# Altium schematic symbol library c3_SchLib.SchLib: 363 symbols (part 1 of 3)
Pins are listed as number, name and electrical type; pins without a type are passive.

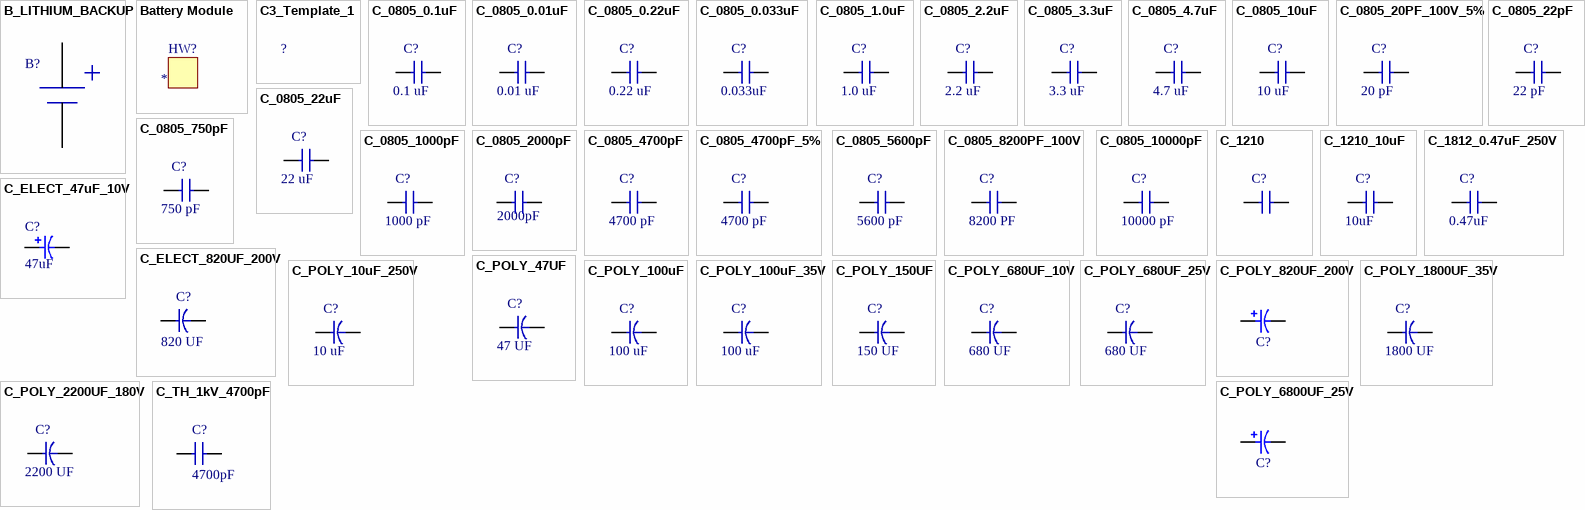
[diagram p0: symbols B_LITHIUM_BACKUP to C_TH_1kV_4700pF]

## B_LITHIUM_BACKUP
designator B?, comment Lithium Backup Battery  (value not drawn)
BATT LITH COIN 3V HITEMP SMD; Manufacturer PN: P290-ND; SVP Creator: Thomas; Known Distributors: Digikey; ComponentLink1Description: Datasheet; ComponentLink1URL: http://panasonic.com/industrial/includes/pdf/br1225afa.pdf; Price: 1.70
footprint SMT_LITHIUM
pins: 1 0, 2 1

## Battery Module
designator HW?
footprint Battery Module

## C3_Template_1
designator ?, comment Short Part Description  (value not drawn)
Technical Desc (like Digikey description); ComponentLink1Description: Datasheet; ComponentLink1URL: SVN Datasheet URL

## C_0805_0.1uF
designator C?, comment value 0.1 uF  (hidden comment: CAP 0.1uF)
CAP CERM 0.1uF; Manufacturer: Yageo; Manufacturer PN: CC0805ZRY5V9BB104; SVP Creator: Brett Paulsen; Package: 0805; Known Distributors: Digikey; ComponentLink1Description: Datasheet; ComponentLink1URL: SVN Datasheet URL; Price: .028
footprint 0805_Capacitor (0805 Capacitor)
pins: 1, 2

## C_0805_0.01uF
designator C?, comment value 0.01 uF  (hidden comment: CAP 0.01uF)
CAP CERM 0.01uF; SVP Creator: Matt Rogge; Package: 0805; Known Distributors: Digikey; ComponentLink1Description: Datasheet; ComponentLink1URL: http://search.digikey.com/us/en/products/GRM2195C1H103JA01D/490-1642-1-ND/587501
footprint 0805_Capacitor (0805 Capacitor)
pins: 1, 2

## C_0805_0.22uF
designator C?, comment value 0.22 uF  (hidden comment: CAP 0.22uF)
CAP CERM 0.22uF; SVP Creator: Matt Rogge; Package: 0805; Known Distributors: Digikey; ComponentLink1Description: Datasheet; ComponentLink1URL: http://search.digikey.com/us/en/products/C0805C224J5NACTU/399-5766-1-ND/2236773
footprint 0805_Capacitor (0805 Capacitor)
pins: 1, 2

## C_0805_0.033uF
designator C?, comment value 0.033uF  (hidden comment: CAP 0.033uF)
CAP CERM 0.033uF; SVP Creator: Matt Rogge; Package: 0805; Known Distributors: Digikey; ComponentLink1Description: Datasheet; ComponentLink1URL: http://search.digikey.com/us/en/products/08055C333JAT2A/478-3769-1-ND/1116467
footprint 0805_Capacitor (0805 Capacitor)
pins: 1, 2

## C_0805_1.0uF
designator C?, comment value 1.0 uF  (hidden comment: CAP 1uF)
CAP CERM 1uF; SVP Creator: Mark Newcomb; Package: 0805; Known Distributors: Digikey; ComponentLink1Description: Datasheet; ComponentLink1URL: http://search.digikey.com/us/en/products/C2012Y5V1H105Z%2F0.85/445-3463-1-ND/1801562
footprint 0805_Capacitor (0805 Capacitor)
pins: 1, 2

## C_0805_2.2uF
designator C?, comment value 2.2 uF  (hidden comment: CAP 2.2 uF)
CAP CERM 2.2 uF; Package: 0805; Known Distributors: Digikey; ComponentLink1Description: Datasheet; ComponentLink1URL: SVN Datasheet URL
footprint 0805_Capacitor (0805 Capacitor)
pins: 1, 2

## C_0805_3.3uF
designator C?, comment value 3.3 uF  (hidden comment: CAP 3.3 uF)
CAP CERM 3.3 uF; SVP Creator: Katie Moenkhaus; Package: 0805; Known Distributors: Digikey; ComponentLink1Description: Datasheet; ComponentLink1URL: SVN Datasheet URL
footprint 0805_Capacitor (0805 Capacitor)
pins: 1, 2

## C_0805_4.7uF
designator C?, comment value 4.7 uF  (hidden comment: CAP 4.7uF)
CAP CER 4.7UF 50V X5R 10% 0805; Manufacturer: TDK Corp; Manufacturer PN: C2012X5R1H475K; SVP Creator: Matt Rogge; Package: 0805; Known Distributors: Digikey; ComponentLink1Description: Datasheet; ComponentLink1URL: http://www.tdk.com/pdf/general_B11.pdf; Price: .80
footprint 0805_Capacitor (0805 Capacitor)
pins: 1, 2

## C_0805_10uF
designator C?, comment value 10 uF  (hidden comment: CAP 10 uF)
CAP CERM 10 uF; SVP Creator: Matt Rogge; Package: 0805; Known Distributors: Digikey; ComponentLink1Description: Datasheet; ComponentLink1URL: SVN Datasheet URL
footprint 0805_Capacitor (0805 Capacitor)
pins: 1, 2

## C_0805_20PF_100V_5%
designator C?, comment value 20 pF  (hidden comment: CAP 20PF)
CAP CERM 20PF 5% 100V NP0 0805; Manufacturer: AVX; Manufacturer PN: 08051A200JAT2A; SVP Creator: Jonathan Nutzmann; Package: 0805; Known Distributors: Digikey; ComponentLink1Description: Datasheet; ComponentLink1URL: SVN Datasheet URL; Price: 0.231
footprint 0805_Capacitor (0805 Capacitor)
pins: 1, 2

## C_0805_22pF
designator C?, comment value 22 pF  (hidden comment: CAP 22pF)
CAP CER 22PF 50V 5% NP0 0805; SVP Creator: Matt Rogge; Package: 0805; Known Distributors: Digikey; ComponentLink1Description: Datasheet; ComponentLink1URL: http://search.digikey.com/us/en/products/GQM2195C1H220JB01D/490-3608-1-ND/789608
footprint 0805_Capacitor (0805 Capacitor)
pins: 1, 2

## C_0805_22uF
designator C?, comment value 22 uF  (hidden comment: CAP 22 uF)
CAP CER 22UF 16V X5R 10% 0805; Manufacturer: TDK; Manufacturer PN: C2012X5R1C226K; SVP Creator: Matt Rogge; Package: 0805; Known Distributors: digikey; ComponentLink1Description: Datasheet; ComponentLink1URL: http://www.tdk.com/pdf/general_B11.pdf; Price: .88
footprint 0805_Capacitor (0805 Capacitor)
pins: 1, 2

## C_0805_750pF
designator C?, comment value 750 pF  (hidden comment: CAP 750pF)
CAP CER 750PF 50V 5% C0G 0805; Manufacturer: Murata Electronics; Manufacturer PN: GRM2165C1H751JA01D; SVP Creator: Matt Rogge; Package: 0805; Known Distributors: digikey; ComponentLink1Description: Datasheet; ComponentLink1URL: http://www.murata.com/products/catalog/pdf/c02e.pdf; Price: .44
footprint 0805_Capacitor (0805 Capacitor)
pins: 1, 2

## C_0805_1000pF
designator C?, comment value 1000 pF  (hidden comment: CAP 1000pF)
CAP CERM 1000PF; SVP Creator: Jonathan Nutzmann; Package: 0805; Known Distributors: Digikey; ComponentLink1Description: Datasheet; ComponentLink1URL: SVN Datasheet URL
footprint 0805_Capacitor (0805 Capacitor)
pins: 1, 2

## C_0805_2000pF
designator C?, comment value 2000pF  (hidden comment: CAP 2000pF)
CAP CER 2000PF 50V 5% NP0 0805; SVP Creator: Matt Rogge; Package: 0805; ComponentLink1Description: Datasheet; ComponentLink1URL: http://search.digikey.com/us/en/products/GRM2165C1H202JA01D/490-1627-1-ND/587505
footprint 0805_Capacitor (0805 Capacitor)
pins: 1, 2

## C_0805_4700pF
designator C?, comment value 4700 pF  (hidden comment: CAP 4700pF)
CAP CERM 4700pF; SVP Creator: Jonathan Nutzmann; Package: 0805; Known Distributors: Digikey; ComponentLink1Description: Datasheet; ComponentLink1URL: SVN Datasheet URL
footprint 0805_Capacitor (0805 Capacitor)
pins: 1, 2

## C_0805_4700pF_5%
designator C?, comment value 4700 pF  (hidden comment: CAP 4700pF 250V)
CAP CERM 4700pF 250V 5%; Manufacturer: TDK; Manufacturer PN: 445-4147-2-ND; SVP Creator: Chad Furey; Package: 0805; Known Distributors: Digikey; ComponentLink1Description: Datasheet; ComponentLink1URL: SVN Datasheet URL; Price: .55; Rating: 250V
footprint 1206_CAPACITOR (1206 Resistor/Capacitor)
pins: 1, 2

## C_0805_5600pF
designator C?, comment value 5600 pF  (hidden comment: CAP 5600pF)
CAP CERM 5600pF; Manufacturer: Yageo; Manufacturer PN: CC0805KRX7R9BB562; SVP Creator: Andrew Brown; Package: 0805; Known Distributors: Digikey; ComponentLink1Description: Datasheet; ComponentLink1URL: http://search.digikey.com/scripts/DkSearch/dksus.dll?Detail&name=311-1134-1-ND
footprint 0805_Capacitor (0805 Capacitor)
pins: 1, 2

## C_0805_8200PF_100V
designator C?, comment value 8200 PF  (hidden comment: CAP 8200 PF)
CAP CERM 8200 PF; SVP Creator: Jonathan Nutzmann; Package: 0805; Known Distributors: Digikey; ComponentLink1Description: Datasheet; ComponentLink1URL: SVN Datasheet URL
footprint 0805_Capacitor (0805 Capacitor)
pins: 1, 2

## C_0805_10000pF
designator C?, comment value 10000 pF  (hidden comment: CAP 10000pF)
CAP CERM 10000PF; Manufacturer: AVX; Manufacturer PN: 08051A200JAT2A; SVP Creator: Jonathan Nutzmann; Package: 0805; Known Distributors: Digikey; ComponentLink1Description: Datasheet; ComponentLink1URL: SVN Datasheet URL; Price: 0.231
footprint 0805_Capacitor (0805 Capacitor)
pins: 1, 2

## C_1210
designator C?, comment CAP 1210  (value not drawn)
CAP CERM 1210; Package: 1210; Known Distributors: Digikey; ComponentLink1Description: Datasheet; ComponentLink1URL: SVN Datasheet URL
footprint 1210_Capacitor (1210 Capacitor)
pins: 1, 2

## C_1210_10uF
designator C?  value 10uF
CAP CER 10UF 50V 10% X5R 1210; SVP Creator: Matt Rogge; Package: 1210; Known Distributors: Digikey; ComponentLink1Description: Datasheet; ComponentLink1URL: http://search.digikey.com/us/en/products/UMK325BJ106KM-T/587-2247-1-ND/2002945
footprint 1210_Capacitor (1210 Capacitor)
pins: 1, 2

## C_1812_0.47uF_250V
designator C?  value 0.47uF
CAP CER .47UF 250V X7R 10% 1812; Manufacturer: TDK Corporation; Manufacturer PN: C4532X7R2E474K; SVP Creator: Thomas Daede; Package: 1812; Known Distributors: Digikey; ComponentLink1Description: Datasheet; ComponentLink1URL: SVN Datasheet URL; Price: 0.88
footprint 1812_CAPACITOR (Chip Capacitor, 2-Leads, Body 4.5x3.2mm, IPC Medium Density)
pins: 1, 2

## C_ELECT_47uF_10V
designator C?, comment 47uF
pins: 1, 2

## C_ELECT_820UF_200V
designator C?  value 820 UF
CAP ALUM 820UF 200V; Manufacturer: Panasonic; Manufacturer PN: EET-ED2D821CA; ESR: 182.0 mOhm; SVP Creator: Jonathan Anders; Tolerance: ±20%; ComponentLink1URL: http://www.panasonic.com/industrial/components/pdf/ee163_ed_ts_dne.pdf; Known Distributors: Digikey; Price: $3.32
footprint CAP_10MM_35MM
pins: 1, 2

## C_POLY_10uF_250V
designator C?, comment value 10 uF  (hidden comment: EEV-EB2E100Q)
CAP ALUM 10UF 250V 20% SMD; Manufacturer: Panasonic; SVP Creator: Jonathan Nutzmann; ESR: 80mOhms; Package: Radial, Can - SMD; Known Distributors: Digikey; Manufacturer PN: EEV-EB2E100Q; ComponentLink1Description: Datasheet; ComponentLink1URL: http://search.digikey.com/scripts/DkSearch/dksus.dll?Detail&name=PCE4442CT-ND; Price: 1.06; Tolerance: 20%
footprint EEV-EB2E100Q
pins: 1, 2

## C_POLY_47UF
designator C?, comment value 47 UF  (hidden comment: CAP POLY 47UF 200V)
CAP 47UF 200V ELECT EE RADIAL; Manufacturer: Panasonic; Manufacturer PN: EEU-EE2D470; SVP Creator: Thomas Daede; Tolerance: 20%; ESR: unknown; Package: Radial, Can; Known Distributors: Digikey; ComponentLink1Description: Datasheet; ComponentLink1URL: SVN Datasheet URL; Price: 1.03
footprint CAP_12.5mm
pins: 1, 2

## C_POLY_100uF
designator C?, comment value 100 uF  (hidden comment: AFK107M2AP44T-F)
CAP ALUM 100UF 100V 20% SMD; Manufacturer: Cornell Dubilier Electronics (CDE); SVP Creator: Jonathan Nutzmann; ESR: 170 mOhms; Package: Radial, Can; Known Distributors: Digikey; Manufacturer PN: AFK107M2AP44T-F; ComponentLink1Description: Datasheet; ComponentLink1URL: http://www.cde.com/catalogs/AFK.pdf; Price: 2.61; Tolerance: 20%
pins: 1, 2

## C_POLY_100uF_35V
designator C?, comment value 100 uF  (hidden comment: EEE-FP1V101AP)
CAP ALUM 100UF 35V 20% SMD; Manufacturer: Panasonic; SVP Creator: Jonathan Nutzmann; ESR: 80mOhms; Package: Radial, Can - SMD; Known Distributors: Digikey; Manufacturer PN: EEE-FP1V101AP; ComponentLink1Description: Datasheet; ComponentLink1URL: http://search.digikey.com/scripts/DkSearch/dksus.dll?Detail&name=PCE4442CT-ND; Price: 1.03; Tolerance: 20%
footprint EEE-FP1V101AP
pins: 1, 2

## C_POLY_150UF
designator C?, comment value 150 UF  (hidden comment: CAP POLY 150UF)
CAP POLY 150UF 20V HT 125C RAD; Manufacturer: Nichicon; Manufacturer PN: RHT1D151MDN1; SVP Creator: Jonathan Nutzmann; Tolerance: 20%; ESR: 20.0 mOhm; Package: Radial, Can; Known Distributors: Digikey; ComponentLink1Description: Datasheet; ComponentLink1URL: SVN Datasheet URL; Price: 0.99
footprint CAP_NICHICON_R7
pins: 1, 2

## C_POLY_680UF_10V
designator C?, comment value 680 UF  (hidden comment: CAP POLY 680UF)
CAP POLY 680UF 10V LOW ESR RAD; Manufacturer: Nichicon; Manufacturer PN: RR71A681MDN1; SVP Creator: Jonathan Nutzmann; ESR: 7.0 mOhm; Package: Radial, Can; Known Distributors: Digikey; ComponentLink1Description: Datasheet; ComponentLink1URL: SVN Datasheet URL; Price: 0.73
footprint CAP_NICHICON_R7
pins: 1, 2

## C_POLY_680UF_25V
designator C?, comment value 680 UF  (hidden comment: CAP POLY 680UF)
CAP 680UF 25V ELECT FC RADIAL; Manufacturer: Panasonic; Manufacturer PN: EEU-FC1E681; SVP Creator: Jonathan Nutzmann; Package: Radial, Can; Known Distributors: The Shop; ComponentLink1Description: Datasheet; ComponentLink1URL: SVN Datasheet URL; Price: 0.71
footprint CAP_NICHICON_R7
pins: 1, 2

## C_POLY_820UF_200V
designator C?  (value not drawn)
CAP 820UF 200V ELECT TS-ED; Manufacturer: Panasonic; Manufacturer PN: EET-ED2D821EA; HelpURL: http://umnsvp.dyndns.org/svn/centaurus2/datasheets/; ComponentLink1URL: http://umnsvp.dyndns.org/svn/centaurus2/datasheets/; ComponentLink1Description: Datasheet
footprint CAP_10MM_35MM (Footprint not found)
pins: 1, 2

## C_POLY_1800UF_35V
designator C?, comment value 1800 UF  (hidden comment: CAP POLY 1800UF)
CAP 1800UF 35V ELECT FC RADIAL; SVP Creator: Patrick A. Plonski; Known Distributors: The Shop; ComponentLink1Description: Datasheet; ComponentLink1URL: SVN Datasheet URL
footprint CAP_7.5MM
pins: 1, 2

## C_POLY_2200UF_180V
designator C?, comment value 2200 UF  (hidden comment: CAP POLY 2200UF)
CAP 2200UF 180V ALUM SNAP-IN; Manufacturer: Cornell Dubilier Electronics; Manufacturer PN: SLPX222M180H7P3; SVP Creator: Jonathan Nutzmann; Package: Radial, Can; ComponentLink1Description: Datasheet; ComponentLink1URL: SVN Datasheet URL; Price: 5.65
footprint SLPX
pins: 1, 2

## C_POLY_6800UF_25V
designator C?  (value not drawn)
CAP ALUM 6800UF 25V 20% SNAP; Manufacturer: Panasonic; Manufacturer PN: ECO-S1EP682CA; ComponentLink1URL: http://www.panasonic.com/industrial/components/pdf/PIC_TS-UP_SERIES_DNE.pdf; ComponentLink1Description: Datasheet
footprint CAP_10MM_25MM
pins: 1, 2

## C_TH_1kV_4700pF
designator C?  value 4700pF  (hidden comment: C_TH_1kV_4700pF)
CAP CER 4700PF 1KVDC B RAD; Manufacturer: Murata; Manufacturer PN: DEBB33A472KA3B; Temperature Coefficient: Y5P; Tolerance: +/-10%; Voltage Rating: 1000V; SVP Creator: Nate Bolyard; Package: 7.5mm TH; Known Distributor: Digikey; ComponentLink1Description: Datasheet; ComponentLink1URL: http://umnsvp.dyndns.org/svn/centaurus2/datasheets/Capacitors/; HelpURL: http://umnsvp.dyndns.org/svn/centaurus2/datasheets/Capacitors/
footprint CAP_7.5MM (Murata)
pins: 1, 2

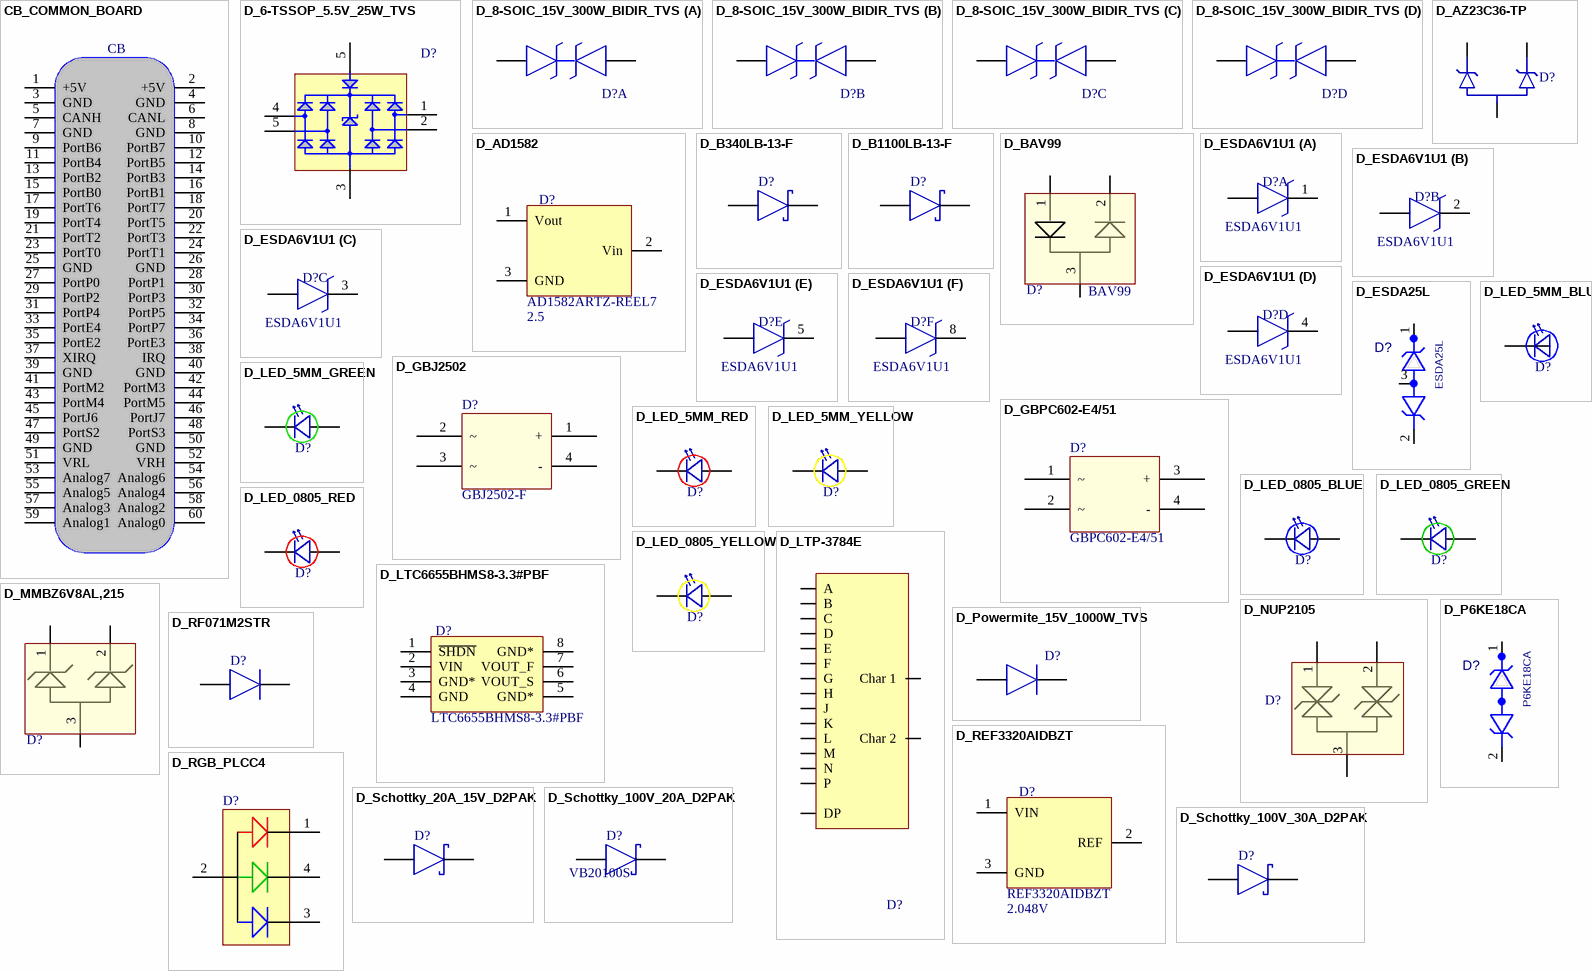
[diagram p1: symbols CB_COMMON_BOARD to D_Schottky_100V_30A_D2PAK]

## CB_COMMON_BOARD
designator CB, comment COMMON BOARD  (value not drawn)
Manufacturer: Samtec; Manufacturer PN: LS2-130-01-S-01-K; SVP Creator: Nate Bolyard; SVP Reviewer 1: Adam Shea; Package: LS2-130-01; HelpURL: http://umnsvp-backup.dyndns.org/svn/centaurus2/datasheets/common%20parts/ls2.pdf; ComponentLink1URL: http://umnsvp-backup.dyndns.org/svn/centaurus2/datasheets/common%20parts/ls2.pdf; ComponentLink1Description: Datasheet
footprint COMMON_BOARD
pins: 1 +5V, 2 +5V, 3 GND, 4 GND, 5 CANH, 6 CANL, 7 GND, 8 GND, 9 PortB6, 10 PortB7, 11 PortB4, 12 PortB5, 13 PortB2, 14 PortB3, 15 PortB0, 16 PortB1, 17 PortT6, 18 PortT7, 19 PortT4, 20 PortT5, 21 PortT2, 22 PortT3, 23 PortT0, 24 PortT1, 25 GND, 26 GND, 27 PortP0, 28 PortP1, 29 PortP2, 30 PortP3, 31 PortP4, 32 PortP5, 33 PortE4, 34 PortP7, 35 PortE2, 36 PortE3, 37 XIRQ, 38 IRQ, 39 GND, 40 GND, 41 PortM2, 42 PortM3, 43 PortM4, 44 PortM5, 45 PortJ6, 46 PortJ7, 47 PortS2, 48 PortS3, 49 GND, 50 GND, 51 VRL, 52 VRH, 53 Analog7, 54 Analog6, 55 Analog5, 56 Analog4, 57 Analog3, 58 Analog2, 59 Analog1, 60 Analog0

## D_6-TSSOP_5.5V_25W_TVS
designator D?, comment TVS Diode 5.5V  (value not drawn)
IC 4CH ESD SOLUTION DIFF SC70-6; Manufacturer: Texas Instruments; Manufacturer PN: TPD4S009DCKR; SVP Creator: Mark Newcomb; Package: 6-TSSOP; ComponentLink1Description: Datasheet; ComponentLink1URL: SVN Datasheet URL
pins: 1 D1+, 2 D1-, 3 GND, 4 D2+, 5 VCC, 5 D2-

## D_8-SOIC_15V_300W_BIDIR_TVS
designator D?, comment 15V BIDIR TVS DIODE  (value not drawn)
TVS ARRAY BIDIR 15.0 VWM SO-8; Manufacturer: Microsemi; Manufacturer PN: SMDA15CE3/TR7; SVP Creator: Mark Newcomb; Package: 8-SOIC; ComponentLink1Description: Datasheet; ComponentLink1URL: SVN Datasheet URL
footprint SOIC127P600X175-8N (SN65HVD230D) (SOIC, 8-Leads, Body 5.0x4.0mm (max), Pitch 1.27mm, IPC Medium Density)
part A pins: 1, 8
part B pins: 2, 7
part C pins: 3, 6
part D pins: 4, 5

## D_AD1582
designator D?  value 2.5  Manufacturer PN: AD1582ARTZ-REEL7
IC VREF SERIES PREC 2.5V SOT23-3; Manufacturer: TI; SVP Creator: Katie Moenkhaus; Package: SOT-23-3; Known Distributors: Digi-Key; Price: 1.80; ComponentLink1Description: Datasheet
footprint SOT-23 (SOT23, 3-Leads, Body 3.0x2.7mm (max), Pitch 0.95mm, IPC Medium Density)
pins: 1 Vout, 2 Vin, 3 GND

## D_AZ23C36-TP
designator D?
DIODE ZENER DUAL 36V SOT-23; Manufacturer: Micro; Manufacturer PN: AZ23C36-TP; SVP Creator: Jonathan Nutzmann; Package: SOT-23-3; Known Distributors: Digikey; HelpURL: http://umnsvp.dyndns.org/svn/centaurus2/datasheets/; ComponentLink1URL: http://umnsvp.dyndns.org/svn/centaurus2/datasheets/; ComponentLink1Description: Datasheet
footprint SOT-23 (SOT23, 3-Leads, Body 3.0x2.7mm (max), Pitch 0.95mm, IPC Medium Density)
pins: 1 CATHODE 1, 2 CATHODE 2, 3 ANODE

## D_B340LB-13-F
designator D?, comment Light Board Buck Diode  (value not drawn)
SCHOTTKY DIODE SCHOTTKY 3A 40V SMB; Manufacturer: Diodes Inc; Manufacturer PN: B340LB-13-F; SVP Creator: Thomas Daede; Package: SMB; Known Distributors: Digi-Key; Price: 0.50; ComponentLink1Description: Datasheet
footprint Model Name (Footprint not found)
footprint SOD123
pins: 1, 2

## D_B1100LB-13-F
designator D?, comment B1100LB-13-F  (value not drawn)
DIODE SCHOTTKY 100V 1A SMB; Manufacturer: Diodes Inc; SVP Creator: Jonathan Nutzmann; Package: SMB; Known Distributors: Digi-Key; Manufacturer PN: B1100LB-13-F; Price: 0.43; ComponentLink1Description: Datasheet
footprint SMB
pins: 1, 2

## D_BAV99
designator D?, comment BAV99
DIODE ULTRAFAST HI COND SOT-23; Manufacturer: Fairchild; SVP Creator: Jonathan Nutzmann; Package: SOT-23; Manufacturer PN: BAV99
footprint SOT-23 (SOT23, 3-Leads, Body 3.0x2.7mm (max), Pitch 0.95mm, IPC Medium Density)
pins: 1, 2, 3

## D_ESDA6V1U1
designator D?  Part Number: ESDA6V1U1  (hidden comment: D_ESDA6V1U1)
IC TVS ARRAY ESD UNIDIR 8-SOIC
footprint ESDA6V1U1 (SOP, 8-Leads, Body 5.0x4.0mm (max), Pitch 1.27mm, IPC Medium Density)
part A pins: 1, 6
part B pins: 2, 6
part C pins: 3, 6
part D pins: 4, 6
part E pins: 5, 6
part F pins: 6, 8

## D_ESDA25L
designator D?  Manufacturer PN: ESDA25L  (hidden comment: D_ESDA25L)
IC ARRAY TRANSIL DUAL ESD SOT23; Manufacturer: ST MICRO/EQUIV.; Value: *; Creator: Jonathan Nutzmann; Reviewer: *
footprint SOT-23 (SOT23, 3-Leads, Body 3.0x2.7mm (max), Pitch 0.95mm, IPC Medium Density)
pins: 1, 2, 3

## D_GBJ2502
designator D?, comment Manufacturer PN: GBJ2502-F  (hidden comment: Battery Tester Rectifier)
RECT BRIDGE GPP 25A 200V GBJ; Manufacturer: Vishay; SVP Creator: Jonathan Nutzmann; Known Distributors: Digi-Key; Price: 1.86; ComponentLink1Description: Datasheet
footprint GBJ2502
pins: 1 +, 2 ~, 3 ~, 4 -

## D_GBPC602-E4/51
designator D?, comment Manufacturer PN: GBPC602-E4/51  (hidden comment: Battery Tester Rectifier)
RECTIFIER BRIDGE 6A 200V GBPC6; Manufacturer: Vishay; Known Distributors: Digi-Key; Price: 1.66; ComponentLink1Description: Datasheet
footprint GBPC6
pins: 1 ~, 2 ~, 3 +, 4 -

## D_LED_5MM_BLUE
designator D?  (value not drawn)
LED 5MM BLUE CLEAR 470NM 15DEG; Manufacturer: Cree Inc; Manufacturer PN: C503B-BCN-CV0Z0461; SVP Creator: Matt Crane; Current: 20mA; Forward Voltage: 3.2; Package: Radial; Known Distributors: Digikey; Value: BLUE; ComponentLink1Description: Datasheet
footprint LED_5mm_BLUE; pin to pad 1>2 2>1
pins: 1 Cathode, 2 Anode

## D_LED_5MM_GREEN
designator D?  (value not drawn)
LED 5MM GREEN CLEAR 527NM 15DEG; Manufacturer: Cree Inc; Manufacturer PN: C503B-GAN-CB0F0791; SVP Creator: Matt Crane; Current: 20mA; Forward Voltage: 3.2; Package: Radial; Known Distributors: Digikey; Value: GREEN; ComponentLink1Description: Datasheet
footprint LED_5mm_GREEN; pin to pad 1>2 2>1
pins: 1 Cathode, 2 Anode

## D_LED_5MM_RED
designator D?  (value not drawn)
LED 5MM RED CLEAR 624NM 15DEG; Manufacturer: Cree Inc; Manufacturer PN: C503B-RAS-CY0B0AA1; SVP Creator: Matt Crane; Current: 20mA; Forward Voltage: 2.1; Package: Radial; Known Distributors: Digikey; Value: RED; ComponentLink1Description: Datasheet
footprint LED_5mm_RED; pin to pad 1>2 2>1
pins: 1 Cathode, 2 Anode

## D_LED_5MM_YELLOW
designator D?  (value not drawn)
LED 5MM AMBER CLEAR 591NM 15DEG; Manufacturer: Cree Inc; Manufacturer PN: C503B-AAN-CY0B0251; SVP Creator: Matt Crane; Current: 20mA; Forward Voltage: 2.1; Value: YELLOW; Package: Radial; Known Distributors: Digikey; ComponentLink1Description: Datasheet
footprint LED_5mm_YELLOW; pin to pad 1>2 2>1
pins: 1 Cathode, 2 Anode

## D_LED_0805_BLUE
designator D?  (value not drawn)
LED 2X1.2MM 470NM BL WTR CLR SMD; SVP Creator: Jonathan Nutzmann; Current: 20mA; Forward Voltage: 3.3; Value: RED; Package: 0805; Known Distributors: Digikey; ComponentLink1Description: Datasheet
footprint 0805_BLUE (Chip Capacitor; Body 2.0 x 1.2 mm (LxW typ))
pins: 1 Cathode, 2 Anode

## D_LED_0805_GREEN
designator D?  (value not drawn)
LED CHIPLED 570NM GREEN 0805 SMD; Manufacturer: Osram Opto Semiconductors Inc; Manufacturer PN: LG R971-KN-1-0-20-R18; SVP Creator: Nate Bolyard; SVP Reviewer 1: Trevtron; Current: 20mA; Forward Voltage: 2.2V; Package: 0805; Known Distributors: Digikey; Value: GREEN; HelpURL: http://umnsvp.dyndns.org/svn/centaurus2/datasheets/common parts/LG_R971.pdf; ComponentLink1URL: http://umnsvp.dyndns.org/svn/centaurus2/datasheets/common parts/LG_R971.pdf; ComponentLink1Description: Datasheet
footprint 0805P_Green (Chip Capacitor; Body 2.0 x 1.2 mm (LxW typ))
pins: 1 Cathode, 2 Anode

## D_LED_0805_RED
designator D?  (value not drawn)
LED CHIPLED 645NM RED DIFF 0805; SVP Creator: Jonathan Nutzmann; Current: 20mA; Forward Voltage: 1.8; Package: 0805; Known Distributors: Digikey; Value: RED; ComponentLink1Description: Datasheet
footprint 0805P_RED (Chip Capacitor; Body 2.0 x 1.2 mm (LxW typ))
pins: 1 Cathode, 2 Anode

## D_LED_0805_YELLOW
designator D?  (value not drawn)
LED 595NM AMBER DIFF SMD 0805; SVP Creator: Jonathan Nutzmann; Current: 20mA; Forward Voltage: 1.9; Value: YELLOW; Package: 0805; Known Distributors: Digikey; ComponentLink1Description: Datasheet
footprint 0805P_YELLOW (Chip Capacitor; Body 2.0 x 1.2 mm (LxW typ))
pins: 1 Cathode, 2 Anode

## D_LTC6655BHMS8-3.3#PBF
designator D?  Manufacturer PN: LTC6655BHMS8-3.3#PBF
IC VREF SERIES PREC 3.3V 8-MSOP; Manufacturer: Linear Technology; SVP Creator: Jonathan Nutzmann; Known Distributors: Digi-Key; ComponentLink1Description: Datasheet
footprint TSOP65P490X110-8N (TSOP, 8-Leads, Body 3.1x3.1mm (max), Pitch 0.65mm, IPC Medium Density)
pins: 1 ~{SHDN}, 2 VIN, 3 GND*, 4 GND, 5 GND*, 6 VOUT_S, 7 VOUT_F, 8 GND*

## D_LTP-3784E
designator D?, comment 14-segment 2-character display  (value not drawn)
LED ALPHNUM.54" 2DGT RED-ORNG CC; Manufacturer: Lite-On Inc; Manufacturer PN: LTP-3784E; SVP Creator: Matt Crane; Known Distributors: Digikey; ComponentLink1Description: Datasheet; ComponentLink1URL: http://umnsvp.dyndns.org/svn/centaurus3/Hardware/datasheets/Driver Interface/P_100_P3784E.pdf; Price: 3.78
footprint LTP-3784E
pins: 1 E, 2 M, 4 L, 5 K, 6 J, 7 D, 8 DP, 9 C, 10 B, 11 Char 2, 12 A, 13 N, 14 H, 15 G, 16 Char 1, 17 P, 18 F

## D_MMBZ6V8AL,215
designator D?, comment MMBZ6V8AL,215  (value not drawn)
DIODE ESD PROT DBL 4.5V SOT23; Manufacturer: NXP; SVP Creator: Jonathan Nutzmann; Package: SOT-23; Manufacturer PN: MMBZ6V8AL,215; ComponentLink1Description: Datasheet; ComponentLink1URL: SVN Datasheet URL; Price: .45
footprint SOT-23 (SOT23, 3-Leads, Body 3.0x2.7mm (max), Pitch 0.95mm, IPC Medium Density)
pins: 1, 2, 3

## D_NUP2105
designator D?, comment CAN TVS  (value not drawn)
IC CAN BUS PROTECTOR DUAL SOT23; Manufacturer: ON Semiconductor; Manufacturer PN: NUP2105; SVP Creator: Thomas Daede; Package: SOT-23; ComponentLink1Description: Datasheet; ComponentLink1URL: SVN Datasheet URL; Price: 0.50
footprint SOT-23 (SOT23, 3-Leads, Body 3.0x2.7mm (max), Pitch 0.95mm, IPC Medium Density)
pins: 1, 2, 3

## D_P6KE18CA
designator D?, comment P6KE18CA
TRANSIL 600W 18V BIDIR DO-15; Manufacturer: ST MICRO/EQUIV.; Value: *; Creator: Jonathan Nutzmann; Reviewer: *; Manufacturer PN: P6KE18CA
footprint DO-15
pins: 1, 2

## D_Powermite_15V_1000W_TVS
designator D?, comment Short Part Description  (value not drawn)
TVS BIDIRECT 1000W 15V POWRMITE; Manufacturer: Microsemi; Manufacturer PN: UPTB15E3/TR7; SVP Creator: Mark Newcomb; Package: Powermite; Known Distributors: Digikey; ComponentLink1Description: Datasheet; ComponentLink1URL: http://umnsvp.dyndns.org/websvn/filedetails.php?repname=centaurus3&path=%2FHardware%2Fdatasheets%2FTelemetry%2FUPTB15E3-TR7.pdf
footprint UPTB15E3/TR7
pins: 1, 2

## D_REF3320AIDBZT
designator D?, comment value 2.048V  Manufacturer PN: REF3320AIDBZT  (hidden comment: IC LDO V-REF 2.048V SOT23-3)
Manufacturer: TI; SVP Creator: Jonathan Nutzmann; Package: SOT-23-3; Known Distributors: Digi-Key; Price: 2.45; ComponentLink1Description: Datasheet
footprint SOT-23 (SOT23, 3-Leads, Body 3.0x2.7mm (max), Pitch 0.95mm, IPC Medium Density)
pins: 1 VIN, 2 REF, 3 GND

## D_RF071M2STR
designator D?, comment SCHOTTKY 150V 3A  (value not drawn)
DIODE 200V 700MA SOD123; Manufacturer: Rohm; Manufacturer PN: RF071M2STR; SVP Creator: Thomas Daede; Package: SOD-123F; Known Distributors: Digi-Key; Price: 0.62; ComponentLink1Description: Datasheet
footprint SOD123
pins: 1, 2

## D_RGB_PLCC4
designator D?  (value not drawn)
LED RED/GREEN/BLUE PLCC4 SMD; Mfg Part Number: CLV1A-FKB-CJ1M1F1BB7R4S3; SVP Creator: Jonathan Nutzmann; Digikey PN: CLV1A-FKB-CJ1M1F1BB7R4S3CT-ND; Cost: 0.94; Datasheet: http://www.cree.com/products/pdf/LEDlamps/CLV1A-FKB(874).pdf
footprint 4-PLCC (RGB LED)
pins: 1 R-, 2 D+, 3 B-, 4 G-

## D_Schottky_20A_15V_D2PAK
designator D?, comment STPS20L15G-TR  (value not drawn)
DIODE SCHOTTKY 20A 15V D2PAK; Manufacturer: STMicro; SVP Creator: Jonathan Nutzmann; Known Distributors: Digi-Key; Manufacturer PN: STPS20L15G-TR; Price: 3.49; ComponentLink1Description: Datasheet
footprint D2PAK-D
pins: A, K

## D_Schottky_100V_20A_D2PAK
designator D?, comment VB20100S
DIODE SCHOTTKY 20A 100V TO-263; Manufacturer: Vishay General Semiconductor; SVP Creator: Chad Furey; Package: TO-263-3, D²Pak (2 leads + Tab), TO-263AB; Known Distributors: Digi-Key; Manufacturer PN: VB20100S; ComponentLink1URL: http://www.vishay.com/docs/88975/v20100s.pdf; ComponentLink1Description: Datasheet
footprint D2PAK - DA-T263-101E (D2-PAK/TO-263-AB; 3 Leads (1 Cropped); Body 15.5 (inc. leads) x 10.5 mm (LxW max))
pins: 2 K, 3 A

## D_Schottky_100V_30A_D2PAK
designator D?, comment DIODE SCHOTTKY 30A 100V TO-263AB  (value not drawn)
Manufacturer: Vishay/General Semiconductor; Manufacturer PN: VB30100S-E3/8W; SVP Creator: Brittany Pentek; Package: TO-263-3, D²Pak (2 leads + Tab), TO-263AB; Known Distributors: Digi-Key; Price: $2.05; HelpURL: http://umnsvp.dyndns.org/svn/centaurus2/datasheets/DI/DIODE SCHOTTKY 30A 100V TO-263AB.pdf; ComponentLink1URL: http://umnsvp.dyndns.org/svn/centaurus2/datasheets/DI/DIODE SCHOTTKY 30A 100V TO-263AB.pdf; ComponentLink1Description: Datasheet
footprint D2PAK
pins: 1, 2

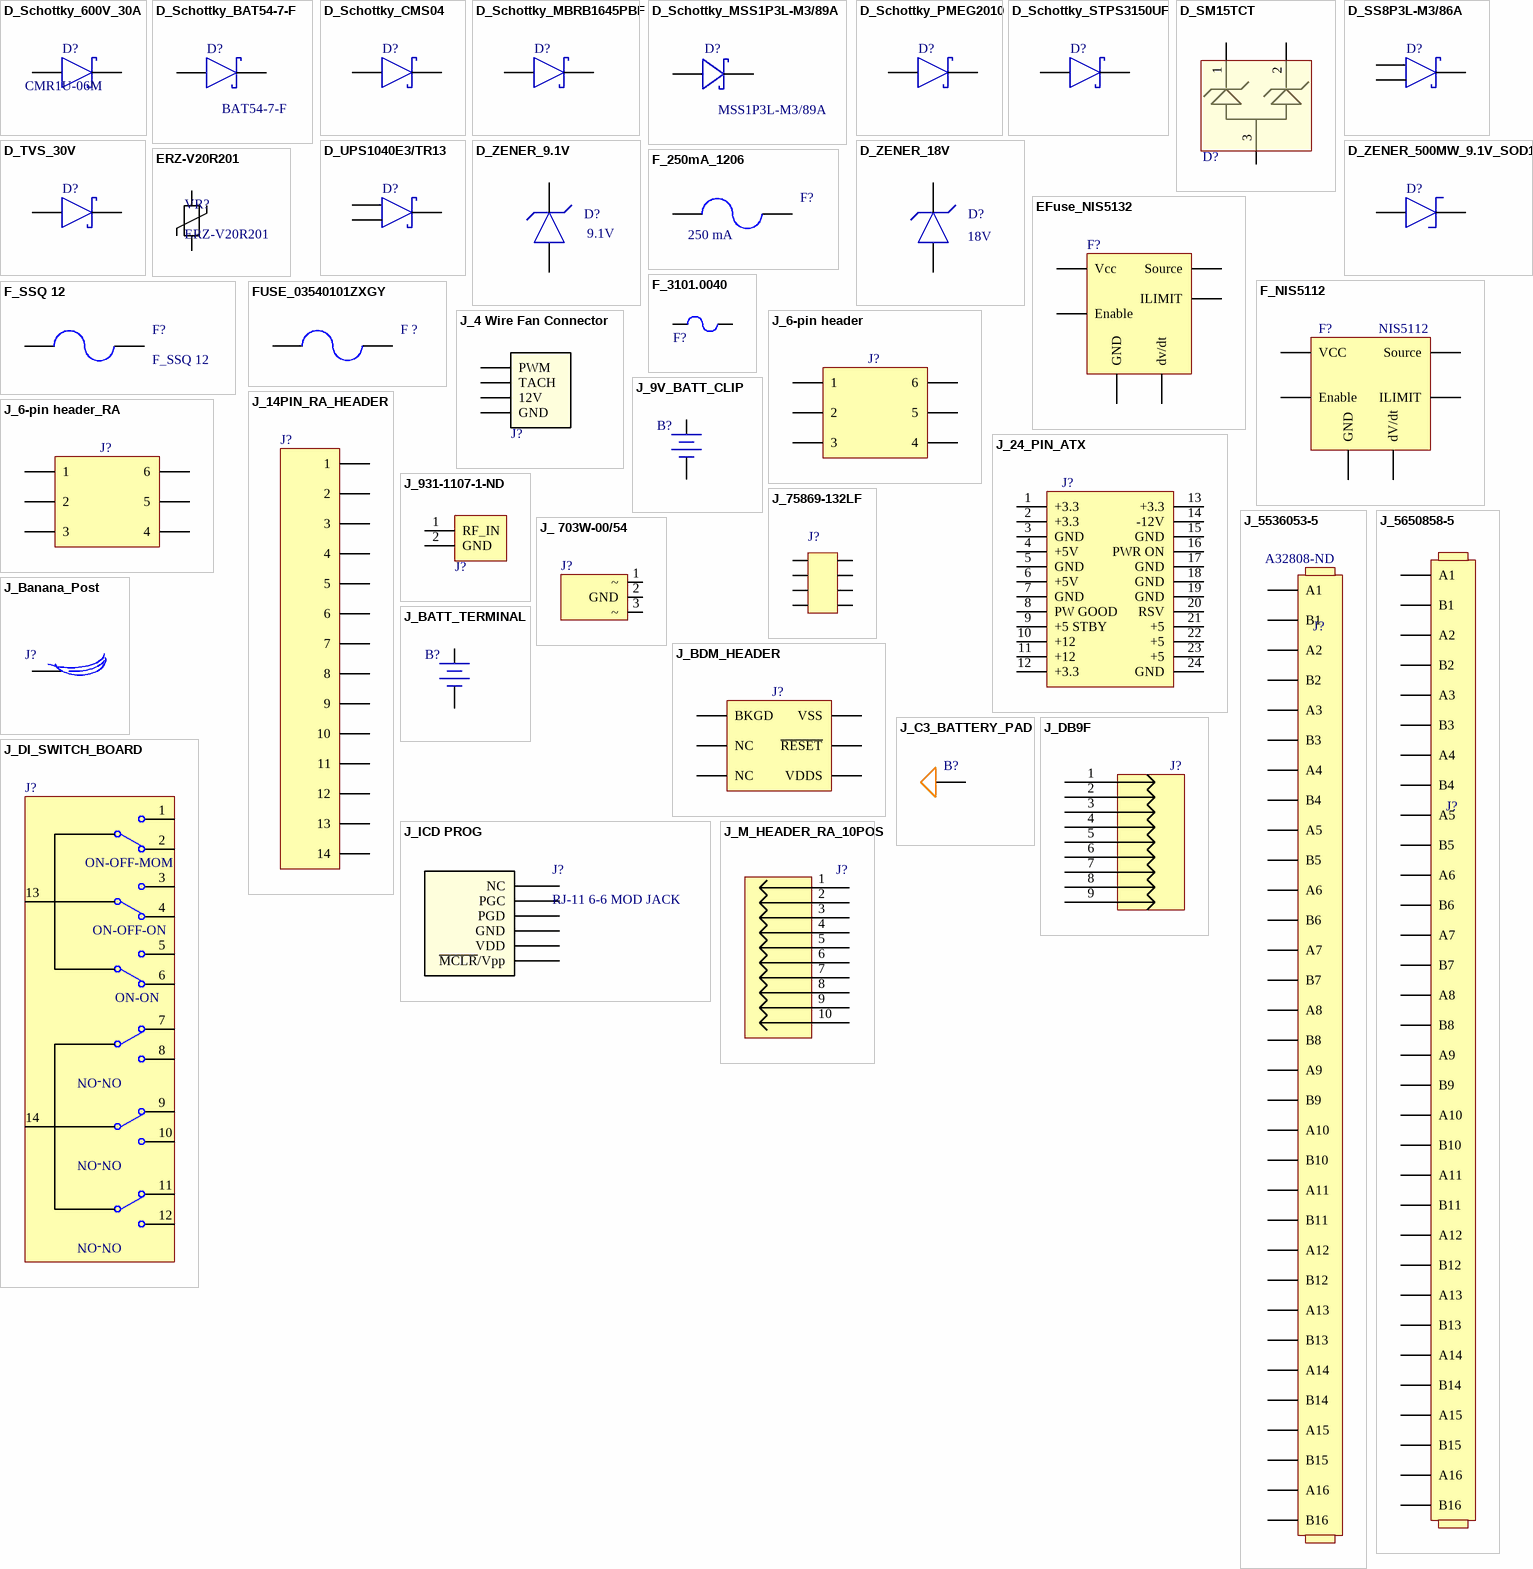
[diagram p2: symbols D_Schottky_600V_30A to J_M_HEADER_RA_10POS]

## D_Schottky_600V_30A
designator D?, comment CMR1U-06M
DIODE SCHOTTKY 30A 600V; Manufacturer: Central Semiconductor Corp; SVP Creator: Marcus Ewert; Package: SMA; Known Distributors: Digi-Key; Manufacturer PN: CMR1U-06M; ComponentLink1URL: http://www.centralsemi.com/PDFs/products/CMR1U01M.pdf; ComponentLink1Description: Datasheet
footprint SMB
pins: 1 A, 2 K

## D_Schottky_BAT54-7-F
designator D?, comment Manufacturer PN: BAT54-7-F  (hidden comment: SCHOTTKY 30V 1A)
DIODE SCHOTTKY 30V 200MW SOT23-3; Manufacturer: Diodes Inc; SVP Creator: Brett Paulsen; Current: 200mA; Vf: 0.8V @ 100mA; Package: SOT23-3; Known Distributors: Digi-Key; Price: .39; ComponentLink1Description: Datasheet; Voltage: 30V
footprint SOT-23 (SOT23, 3-Leads, Body 3.0x2.7mm (max), Pitch 0.95mm, IPC Medium Density)
pins: 1, 3

## D_Schottky_CMS04
designator D?, comment SCHOTTKY 30V 5A  (value not drawn)
RECT SCHOTTKY 30V 5A 3-4E1A; Manufacturer: Toshiba; Manufacturer PN: CMS04(TE12L,Q,M); SVP Creator: Jonathan Nutzmann; Package: 3-4E1A (M-Flat); Known Distributors: Digi-Key; Price: .88; ComponentLink1URL: http://www.toshiba.com/taec/components2/Datasheet_Sync//284/1609.pdf; ComponentLink1Description: Datasheet
footprint 3-4E1A
pins: 1, 2

## D_Schottky_MBRB1645PBF
designator D?, comment SCHOTTKY RECT 45V 16A D2PAK  (value not drawn)
Manufacturer: Vishay Semiconductors; Manufacturer PN: MBRB1645PBF; SVP Creator: Patrick A. Plonski; Package: D2PAK; Known Distributors: Digi-Key; Price: 2.89; ComponentLink1Description: Datasheet
footprint D2PAK; pin to pad 1>2 2>1
pins: 1, 2

## D_Schottky_MSS1P3L-M3/89A
designator D?, comment Manufacturer PN: MSS1P3L-M3/89A  (hidden comment: SCHOTTKY 30V 1A)
DIODE SCHOTTKY 1A 30V MICROSMP; Manufacturer: Vishay; SVP Creator: Brett Paulsen; Vf: 0.5V @ 1A; Package: MicroSMP; Known Distributors: Digi-Key; Price: 0.47; ComponentLink1Description: Datasheet; Voltage: 30V; Current: 1A
footprint MicroSMP
pins: 1, 2

## D_Schottky_PMEG2010
designator D?, comment SCHOTTKY RECT 20V 1A SOD123F  (value not drawn)
Manufacturer: NXP Semiconductors; Manufacturer PN: PMEG2010AEH T/R; SVP Creator: Joanthan Nutzmann; Package: SOD123F; Known Distributors: Digi-Key; Price: .46; HelpURL: http://umnsvp.dyndns.org/svn/centaurus2/datasheets/common parts/PMEG2010AEH_PMEG2010AET_3.pdf; ComponentLink1URL: http://umnsvp.dyndns.org/svn/centaurus2/datasheets/common parts/PMEG2010AEH_PMEG2010AET_3.pdf; ComponentLink1Description: Datasheet
footprint SOD123 (SOD-123; 2 Leads; Body 2.7 x 1.6 mm, (LxW))
pins: 1, 2

## D_Schottky_STPS3150UF
designator D?, comment SCHOTTKY 150V 3A  (value not drawn)
DIODE SCHOTTKY 150V 3A SMB; Manufacturer: STMicroelectronics; Manufacturer PN: STPS3150UF; SVP Creator: Jonathan Nutzmann; Package: DO-214AA, SMB; Known Distributors: Digi-Key; Price: .75; ComponentLink1URL: http://www.st.com/internet/com/TECHNICAL_RESOURCES/TECHNICAL_LITERATURE/DATASHEET/CD00003323.pdf; ComponentLink1Description: Datasheet
pins: 1, 2

## D_SM15TCT
designator D?, comment SM15.TCT  (value not drawn)
IC TVS ARRAY 2UNI/1BI 15V SOT-23; Manufacturer: Semtech; SVP Creator: Jonathan Nutzmann; Package: SOT-23; Manufacturer PN: SM15.TCT; ComponentLink1Description: Datasheet; ComponentLink1URL: SVN Datasheet URL; Price: .45
footprint SOT-23 (SOT23, 3-Leads, Body 3.0x2.7mm (max), Pitch 0.95mm, IPC Medium Density)
pins: 1, 2, 3

## D_SS8P3L-M3/86A
designator D?, comment SS8P3L-M3/86A  (value not drawn)
DIODE SCHOTTKY 8A 30V SMPC; Manufacturer: Vishay; SVP Creator: Jonathan Nutzmann; Package: TO-277; Known Distributors: Digi-Key; Manufacturer PN: SS8P3L-M3/86A; Price: .83; ComponentLink1Description: Datasheet
footprint TO-277
pins: 1, 2, K

## D_TVS_30V
designator D?, comment TVS_30V_600W  (value not drawn)
DIODE TVS 30V 600W; Manufacturer: Littlefuse Inc; Manufacturer PN: SMBJ30A; SVP Creator: Marcus Ewert; Package: SMB; Known Distributors: Digi-Key; Price: 0.54; ComponentLink1URL: http://www.littelfuse.com/data/en/Data_Sheets/Littelfuse_TVS-Diode_SMBJ.pdf; ComponentLink1Description: Datasheet
footprint SMB
pins: 1, 2

## D_UPS1040E3/TR13
designator D?, comment UPS1040E3/TR13  (value not drawn)
DIODE SCHOTTKY 10A 40V PWRMITE3; Manufacturer: Microsemi; SVP Creator: Jonathan Nutzmann; Package: TO-277; Known Distributors: Digi-Key; Manufacturer PN: UPS1040E3/TR13; Price: 1.13; ComponentLink1Description: Datasheet
footprint TO-277
pins: 1, 2, K

## D_ZENER_9.1V
designator D?, comment Voltage: 9.1V  (hidden comment: DIODE ZENER 9.1V 250MW SOT23)
Manufacturer: NXP; Manufacturer PN: BZX84-C9V1,215; SVP Creator: Brett Paulsen; Package: SOT23; Known Distributors: Digi-Key; Price: 0.37; ComponentLink1Description: Datasheet; Power: 250mW
footprint SOT-23 (SOT23, 3-Leads, Body 3.0x2.7mm (max), Pitch 0.95mm, IPC Medium Density)
pins: 1, 3

## D_ZENER_18V
designator D?, comment Voltage: 18V  (hidden comment: DIODE ZENER 18V 350MW SOT23-3)
Manufacturer: Diodes Inc; Manufacturer PN: MMBZ5248B-7-F; SVP Creator: Brett Paulsen; Package: SOT23; Known Distributors: Digi-Key; Price: 0.49; ComponentLink1Description: Datasheet; Power: 350mW
footprint SOT-23 (SOT23, 3-Leads, Body 3.0x2.7mm (max), Pitch 0.95mm, IPC Medium Density)
pins: 1, 3

## D_ZENER_500MW_9.1V_SOD123
designator D?, comment DIODE ZENER 500MW 9.1V SOD123  (value not drawn)
Manufacturer: Micro Commercial Co; Manufacturer PN: MMSZ5239B-TP; SVP Creator: Brittany Pentek; Package: SOD-123; Known Distributors: Digi-Key; Price: 0.38; HelpURL: http://search.digikey.com/scripts/DkSearch/dksus.dll?Detail&name=MMSZ5239B-TPMSCT-ND; ComponentLink1URL: http://61.222.192.61/mccsemi/up_pdf/MMSZ5221-MMSZ5259%28SOD123%29.pdf; ComponentLink1Description: Datasheet
footprint SOD123 (SOD-123; 2 Leads; Body 2.7 x 1.6 mm, (LxW))
pins: 1, 2

## EFuse_NIS5132
designator F?, comment IC ELECTRONIC FUSE 12V 10-DFN  (value not drawn)
Manufacturer: ON Semiconductor; Manufacturer PN: NIS5132MN1TXG; SVP Creator: Nate Bolyard; Known Distributors: Digi-Key; HelpURL: http://umnsvp.dyndns.org/svn/centaurus3/Hardware/datasheets/Telemetry/NIS5132-D.pdf; ComponentLink1URL: http://umnsvp.dyndns.org/svn/centaurus3/Hardware/datasheets/Telemetry/NIS5132-D.pdf; ComponentLink1Description: Datasheet
footprint NIS5132
pins: 1 GND, 2 dv/dt, 3 Enable, 4 ILIMIT, 6 Source, 11 Vcc

## ERZ-V20R201
designator VR?
200V 100J Varistor
footprint ERZ-V20R201 (100J 20mm Metal Oxide Varistor)
pins: 1, 2

## F_250mA_1206
designator F?, comment 250 mA
FUSE 250 mA 1206; SVN Creator: Jonathan Nutzmann; SVN Reviewer 2: *; Package: 1206
pins: 1, 2

## F_3101.0040
designator F?  (value not drawn)
Schurter FPG4 5mm x 20mm Fuse Holder; Dist PN: 486-1159-ND; Distributor: Digikey; Datasheet: http://www.schurterinc.com/var/schurter/storage/ilcatalogue/files/document/datasheet/en/pdf/typ_FPG4.pdf
footprint FPG4 Fuseholder (Schurter 5mmx20mm Fuse Holder)
pins: 1, 2

## F_NIS5112
designator F?  Manufacturer PN: NIS5112  (hidden comment: F_NIS5112)
IC ELECTRONIC FUSE HOTSWAP 8SOIC; Manufacturer: On Semiconductor; SVP Creator: Jonathan Nutzmann; Value: 12V E-Fuse; Package: SOIC-8; ComponentLink1Description: Datasheet
footprint SOIC127P600X175-8N (NIS5112) (SOIC, 8-Leads, Body 5.0x4.0mm (max), Pitch 1.27mm, IPC Medium Density)
pins: 1 GND, 2 dV/dt, 3 Enable, 4 ILIMIT, 5 Source, 8 VCC

## F_SSQ 12
designator F?
FUSE 12A 125V 6125 FAST SSQ; Manufacturer PN: SSQ 12; Manufacturer: Bel Fuse Inc; SVN Creator: Nate Bolyard; Distributor: Digikey; SVN Reviewer 2: *; DataSheet: http://umnsvp.dyndns.org/svn/centaurus2/datasheets/; Price: .606; Package: 2405
footprint 2410
pins: 1, 2

## FUSE_03540101ZXGY
designator F ?  (value not drawn)
FUSE BLOCK 3AG 1POS PCB MNT; Manufacturer: Littelfuse Inc; SVN Creator: Evan Sundry; Distributor: Digikey; Manufacturer PN: 03540101ZXGY; SVN Reviewer 2: *; DataSheet: http://umnsvp.dyndns.org/svn/centaurus2/datasheets/Driver%20Interface/354_OMNIBLOK.pdf; Price: 1.17; Package: 31.8mm x 6.35mm
footprint 354 101-GY
pins: 1, 2

## J_4 Wire Fan Connector
designator J?  (value not drawn)
4 Wire Fan Connector
footprint Fan Header (4 Pin Fan Header)
pins: 1 GND, 2 12V, 3 TACH, 4 PWM

## J_6-pin header
designator J?, comment 6-pin header  (value not drawn)
6-pin header 0.100" pitch; Manufacurer: 3M; Manufacurer_PN: 951206-8622-AR; SVP Creator: Brett Paulsen
footprint 6-PIN HEADER
pins: 1, 2, 3, 4, 5, 6

## J_6-pin header_RA
designator J?, comment 6-pin header RA  (value not drawn)
6-pin header 0.100" pitch RA; Manufacurer: SAMTEC; Manufacurer_PN: TSW-103-09-G-D-RA; SVP Creator: Brett Paulsen
footprint 6-PIN_HEADER - RIGHT ANGLE
pins: 1, 2, 3, 4, 5, 6

## J_9V_BATT_CLIP
designator B?  (value not drawn)
HOLDER BATTERY 9V PC MOUNT; Manufacturer: MPD; Manufacturer PN: BH9V-PC; SVP Creator: Kathleen; SVP Reviewer 1: Trevor Haag; Known Distributors: Digikey; Price: 1.15; HelpURL: http://umnsvp.dyndns.org/svn/centaurus2/datasheets/Common_breakout_board/BH9VPC.pdf; ComponentLink1URL: http://umnsvp.dyndns.org/svn/centaurus2/datasheets/Common_breakout_board/BH9VPC.pdf; ComponentLink1Description: Datasheet
footprint Battery 9V; pin to pad 1>2 2>1
pins: 1 +, 2 -

## J_14PIN_RA_HEADER
designator J?
14 PIN RA HEADER; Manufacurer: SAMTEC; Manufacurer_PN: TSW-114-09-G-S-RE; SVP Creator: Brett Paulsen
footprint TSW-114-21-G-S-RE
pins: 1, 2, 3, 4, 5, 6, 7, 8, 9, 10, 11, 12, 13, 14

## J_24_PIN_ATX
designator J?, comment 24 PIN ATX POWER  (value not drawn)
SVP Creator: Jonathan Nutzmann
pins: 1 +3.3, 2 +3.3, 3 GND, 4 +5V, 5 GND, 6 +5V, 7 GND, 8 PW GOOD, 9 +5 STBY, 10 +12, 11 +12, 12 +3.3, 13 +3.3, 14 -12V, 15 GND, 16 PWR ON, 17 GND, 18 GND, 19 GND, 20 RSV, 21 +5, 22 +5, 23 +5, 24 GND

## J_931-1107-1-ND
designator J?, comment RCPT IPEX MHF U.FL  (value not drawn)
RCPT IPEX MHF (U.FL); Manufacturer: Taoglas Ltd; Manufacturer PN: 931-1107-1-ND; SVP Creator: Mark Newcomb; Known Distributors: Digikey; ComponentLink1Description: Datasheet; ComponentLink1URL: http://umnsvp.dyndns.org/svn/centaurus3/Hardware/datasheets/Telemetry/RECE20279001E.pdf; HelpURL: http://search.digikey.com/scripts/DkSearch/dksus.dll?Detail&name=931-1107-1-ND
footprint RECE.20279.001E (U.FL Connector Footprint)
pins: 1 RF_IN, 2 GND

## J_75869-132LF
designator J?  (value not drawn)
8 pin board-to-board connector; Manufacturer: FCI; SVP Creator: Nate Bolyard; Known Distributors: Digikey; Manufacturer PN: 75869-132LF; Price: .92; ComponentLink1URL: http://umnsvp.dyndns.org/svn/centaurus2/datasheets/Modular Equilizer/75869.pdf; ComponentLink1Description: Datasheet
footprint 75869-132LF
pins: 1, 2, 3, 4, 5, 6, 7, 8

## J_5536053-5
designator J?  Supplier Part Number 1: A32808-ND  (hidden comment: J_5536053-5)
DIN 41612 PCB RA MALE; Manufacturer: Tyco; SVP Creator: Nate Bolyard; SVP Reviewer 1: Matt Crane; Package: RA TH; Known Distributors: newark; Manufacturer PN: 5536053-5; Price: 2.73; HelpURL: http://umnsvp.dyndns.org/svn/centaurus2/datasheets/Battery Protection/ENG_CD_5536053_O1.pdf; ComponentLink1URL: http://umnsvp.dyndns.org/svn/centaurus2/datasheets/Battery Protection/ENG_CD_5536053_O1.pdf; ComponentLink1Description: Datasheet; Supplier 1: Digi-Key
footprint 5536053-5
pins: 1 A1, 2 A2, 3 A3, 4 A4, 5 A5, 6 A6, 7 A7, 8 A8, 9 A9, 10 A10, 11 A11, 12 A12, 13 A13, 14 A14, 15 A15, 16 A16, 17 B1, 18 B2, 19 B3, 20 B4, 21 B5, 22 B6, 23 B7, 24 B8, 25 B9, 26 B10, 27 B11, 28 B12, 29 B13, 30 B14, 31 B15, 32 B16

## J_5650858-5
designator J?  (value not drawn)
DIN 41612 PCB FEMALE; Manufacturer: Tyco; SVP Creator: Nate Bolyard; SVP Reviewer 1: Matt Crane; Package: TH; Known Distributors: Newark; Manufacturer PN: 5650858-5; Price: 3.83; HelpURL: http://umnsvp.dyndns.org/svn/centaurus2/datasheets/Battery Protection/ENG_CAT_82721_1205_015_.pdf; ComponentLink1URL: http://umnsvp.dyndns.org/svn/centaurus2/datasheets/Battery Protection/ENG_CD_650858_E.pdf; ComponentLink1Description: Datasheet
footprint 5650858-5
pins: 1 A1, 2 A2, 3 A3, 4 A4, 5 A5, 6 A6, 7 A7, 8 A8, 9 A9, 10 A10, 11 A11, 12 A12, 13 A13, 14 A14, 15 A15, 16 A16, 17 B1, 18 B2, 19 B3, 20 B4, 21 B5, 22 B6, 23 B7, 24 B8, 25 B9, 26 B10, 27 B11, 28 B12, 29 B13, 30 B14, 31 B15, 32 B16

## J_ 703W-00/54
designator J?, comment Male Computer Plug  (value not drawn)
CONN AC RECEPT 9MM R/A FLAT PCB; Manufacturer: Qualtek; Manufacturer PN: 703W-00/54; SVP Creator: Jonathan Nutzmann; Current Rating: 10A; Voltage Rating: 250V; Known Distributors: Digikey; Price: 1.19
footprint 703W-00/54
pins: 1 ~, 2 GND, 3 ~

## J_Banana_Post
designator J?, comment POST BINDING TIN PLATE BRASS BLK  (value not drawn)
Manufacturer: Pomona Electronics; Manufacturer PN: 3760-0; SVP Creator: Wriju Bhattacharya; Known Distributors: Digi-Key; Price: 3.02; HelpURL: http://umnsvp.dyndns.org/svn/centaurus2/datasheets/Common_breakout_board/d3750-3760-3770_101.pdf; ComponentLink1URL: http://umnsvp.dyndns.org/svn/centaurus2/datasheets/Common_breakout_board/d3750-3760-3770_101.pdf; ComponentLink1Description: Datasheet
footprint BANANA_JACK
footprint BANANA_JACK_BLACK
pins: 1

## J_BATT_TERMINAL
designator B?, comment Battery Terminal  (value not drawn)
Battery Terminal Connection; ComponentLink1Description: Datasheet
footprint BatteryTerminals
pins: 1 +, 2 -

## J_BDM_HEADER
designator J?, comment BDM HHEADER  (value not drawn)
BDM HEADER; Manufacurer: 3M; Manufacurer_PN: 951206-8622-AR; SVP Creator: Nate Bolyard
footprint BDM_HEADER
pins: 1 BKGD, 2 NC, 3 NC, 4 VDDS, 5 ~{RESET}, 6 VSS

## J_C3_BATTERY_PAD
designator B?  (value not drawn)
ComponentLink1Description: Datasheet
footprint BatteryPad
pins: 1

## J_DB9F
designator J?  (value not drawn)
DB9F connection; SVP Creator: Sam Kelley; Known Distributors: the shop; Price: free
footprint DB9F
pins: 1, 2, 3, 4, 5, 6, 7, 8, 9

## J_DI_SWITCH_BOARD
designator J?, comment DI switch board  (value not drawn)
switch board; Manufacturer: BP Electronics; SVP Creator: Brett Paulsen; ComponentLink1Description: Datasheet; ComponentLink1URL: SVN Datasheet URL
footprint DI_SWITCH_BOARD
pins: 1, 2, 3, 4, 5, 6, 7, 8, 9, 10, 11, 12, 13, 14
text: ON-OFF-MOM; ON-OFF-ON; ON-ON

## J_ICD PROG
designator J?, comment RJ-11 6-6 MOD JACK
SCS RJ-11 Jack
footprint SS-6466-NF
pins: 1 ~{MCLR}/Vpp, 2 VDD, 3 GND, 4 PGD, 5 PGC, 6 NC

## J_M_HEADER_RA_10POS
designator J?
CONN HEADER 10POS RIGHT ANG TIN; Manufacturer: Molex Connector Corporation; Manufacturer PN: 19427-0031; SVP Creator: Matt Rogge; CompontentLink1URL: http://search.digikey.com/us/en/products/19427-0031/WM17508-ND/863312; Known Distributors: Digikey; Price: 8.53
footprint J_M_HEADER_RA_10POS
pins: 1, 2, 3, 4, 5, 6, 7, 8, 9, 10

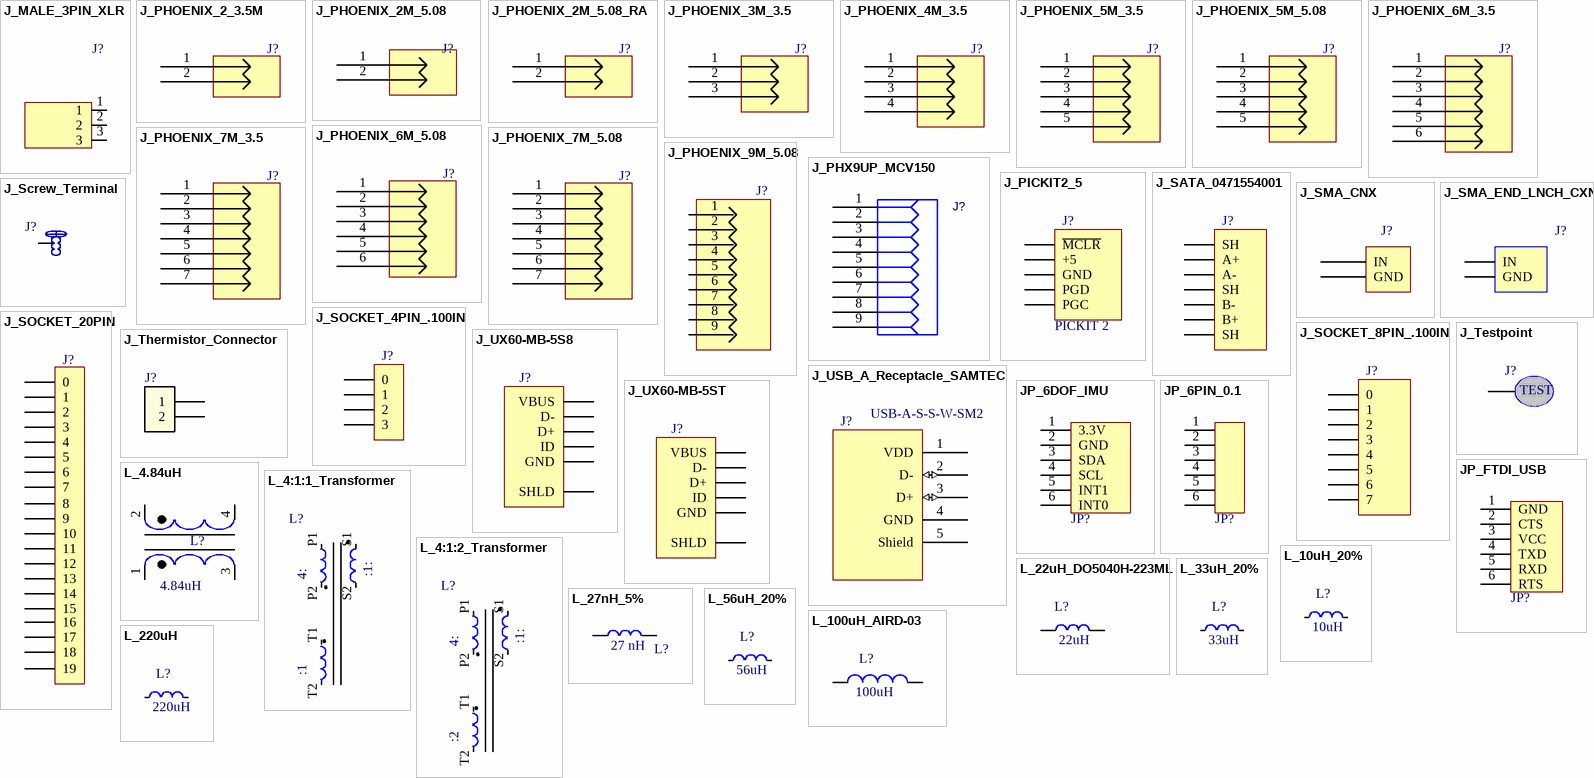
[diagram p3: symbols J_MALE_3PIN_XLR to L_220uH]

## J_MALE_3PIN_XLR
designator J?  (value not drawn)
Male 3 Pin XLR connector; Manufacturer: Neutrik; Manufacturer PN: NC3MAAH-1; SVP Creator: Evan Sundry; Current Rating: 6A; Voltage Rating: 50V; ComponentLink1Description: http://www.neutrik.com/us/en/audio/210_296082579/NC3MAAH-1_detailtechnical.aspx?title=NC3MAAH-1; CompontentLink1URL: http://www.neutrik.com/us/en/audio/210_296082579/NC3MAAH-1_detailtechnical.aspx?title=NC3MAAH-1; HelpURL: http://www.neutrik.com/us/en/audio/210_296082579/NC3MAAH-1_detailtechnical.aspx?title=NC3MAAH-1; Known Distributors: Newark; Package: Horizontal PC Board Mount; Price: 1.68
footprint 3 Pin XLR (NC3MAAH-1)
pins: 1, 2, 3

## J_PHOENIX_2_3.5M
designator J?, comment Board to Shunt Resistor Connector  (value not drawn)
2 Pin Male Phoenix Connector 3.5; Manufacturer PN: 1731471; SVP Creator: Katie Moenkhaus
pins: 1, 2

## J_PHOENIX_2M_5.08
designator J?
2 Pin From Motor
pins: 1, 2

## J_PHOENIX_2M_5.08_RA
designator J?
2 Pin Male Phoenix Connector 5.08 Right Angle; Manufacturer: Phoenix Contact; Manufacturer PN: 1757242; SVP Creator: Thomas Daede; Price: 0.47
footprint PHONEIX_2_5.08_RA
pins: 1, 2

## J_PHOENIX_3M_3.5
designator J?, comment Board to Board Battery Tester  (value not drawn)
3 Pin Male Phoenix Connector 3.5; Manufacturer PN: 1843648; SVP Creator: Jonathan Nutzmann
footprint 1843619
pins: 1, 2, 3

## J_PHOENIX_4M_3.5
designator J?
4 Pin Male Phoenix Connector 3.5; Manufacturer PN: 1843622; SVP Creator: Jonathan Nutzmann
footprint 1843622
pins: 1, 2, 3, 4

## J_PHOENIX_5M_3.5
designator J?
5 Pin Male Phoenix Connector 3.5; Manufacturer PN: 1843635; SVP Creator: Jonathan Nutzmann
footprint 1843635
pins: 1, 2, 3, 4, 5

## J_PHOENIX_5M_5.08
designator J?, comment Board to Board Battery Tester  (value not drawn)
5 Pin Male Phoenix Connector 5.08; SVP Creator: Jonathan Nutzmann; Price: Free, kind of.
footprint PHONEIX_5_5.08
pins: 1, 2, 3, 4, 5

## J_PHOENIX_6M_3.5
designator J?, comment Board to Board Battery Tester  (value not drawn)
6 Pin Male Phoenix Connector 3.6; Manufacturer PN: 1843648; SVP Creator: Jonathan Nutzmann
footprint 1843648
pins: 1, 2, 3, 4, 5, 6

## J_PHOENIX_6M_5.08
designator J?, comment Board to Board Battery Tester  (value not drawn)
6 Pin Male Phoenix Connector 5.08; SVP Creator: Jonathan Nutzmann; Price: Free, kind of.
footprint PHONEIX_6_5.08
pins: 1, 2, 3, 4, 5, 6

## J_PHOENIX_7M_3.5
designator J?, comment Board to Board Battery Tester  (value not drawn)
7 Pin Male Phoenix Connector 3.5; Manufacturer PN: 1843651; SVP Creator: Jonathan Nutzmann
footprint 1843651
pins: 1, 2, 3, 4, 5, 6, 7

## J_PHOENIX_7M_5.08
designator J?
7 Pin Male Phoenix Connector 5.08; Manufacturer PN: 1755781; SVP Creator: Jonathan Nutzmann
footprint PHONEIX_7_5.08 (Footprint not found)
pins: 1, 2, 3, 4, 5, 6, 7

## J_PHOENIX_9M_5.08
designator J?, comment Connector  (value not drawn)
9 Pin Male Phoenix Connector 5.08; Manufacturer: Phoenix Contact; Manufacturer PN: 1755804; SVP Creator: Jonathan Anders; ComponentLink1Description: http://search.digikey.com/us/en/products/1755804/277-1157-ND/260525; ComponentLink1URL: SVN Datasheet URL
footprint PHONEIX_9_5.08
pins: 1, 2, 3, 4, 5, 6, 7, 8, 9

## J_PHX9UP_MCV150
designator J?  (value not drawn)
CONN., 9 PIN, 3.81 MM PITCH, MCV150; Manufacturer: PHOENIX; Part Number: 1803510; Value: *
footprint PHONEIX_9UP_MCV150 (9 pin Phoneix conector)
pins: 1, 2, 3, 4, 5, 6, 7, 8, 9

## J_PICKIT2_5
designator J?  value PICKIT 2  (hidden comment: J_PICKIT2_5)
PICKIT2 PROG HEADER; Manufacurer_PN: PPPC051LGBN-RC; Known Distributors: Digikey
footprint CONN FEMALE 5POS .100" R/A GOLD (PICKIT2 Programmer Header)
pins: +5, GND, PGC, PGD, RST ~{MCLR}

## J_SATA_0471554001
designator J?
CONN SATA HDR 7POS PCB VERT; Manufacturer: Molex; Manufacturer PN: 0471554001; Known Distributors: Digikey
footprint SATA_67800-8005
pins: 1 SH, 2 A+, 3 A-, 4 SH, 5 B-, 6 B+, 7 SH

## J_Screw_Terminal
designator J?, comment Screw Terminal  (value not drawn)
Screw Terminal Hole; SVP Creator: Jonathan Nutzmann; Price: Free!; ComponentLink1Description: Datasheet
footprint Generic Terminal
footprint BANANA_JACK_BLACK
pins: 1

## J_SMA_CNX
designator J?  (value not drawn)
CONN MALE EDGE MT FOR .062" BD; Manufacturer: Linx Technologies Inc; Manufacturer PN: CONSMA013.062; SVP Creator: Sam Kelley; Known Distributors: digikey; Price: $4.94; HelpURL: http://umnsvp.dyndns.org/svn/centaurus2/datasheets/Telemetry/CONSMA013.062.pdf; ComponentLink1URL: http://umnsvp.dyndns.org/svn/centaurus2/datasheets/Telemetry/CONSMA013.062.pdf; ComponentLink1Description: Datasheet
footprint SMA
pins: 1 IN, 2 GND

## J_SMA_END_LNCH_CXN
designator J?, comment Short Part Description  (value not drawn)
CONN JACK END LAUNCH PCB .187" G; Manufacturer: Emerson Network Power Connectivity Solutions; Manufacturer PN: 142-0701-801; SVP Creator: Mark Newcomb; Package: SMA End Launch; Known Distributors: Digikey; ComponentLink1Description: Datasheet; ComponentLink1URL: SVN Datasheet URL; HelpURL: http://search.digikey.com/us/en/products/142-0701-801/J502-ND/35280; Price: $5.10
pins: 1 IN, 2 GND

## J_SOCKET_4PIN_.100IN
designator J?, comment SOCKET_4PIN_0.100IN  (value not drawn)
CONN HEADER FEMALE 4POS .1" GOLD; Manufacturer: Sullins Connector Solutions; Manufacturer PN: PPPC041LFBN-RC; SVP Creator: Nate Untiedt; Package: 0.100IN; Known Distributors: Digikey; Price: .44; HelpURL: http://umnsvp.dyndns.org/svn/centaurus2/datasheets/Common_breakout_board/PP_Cxx1LFBN.pdf; ComponentLink1URL: http://umnsvp.dyndns.org/svn/centaurus2/datasheets/Common_breakout_board/PP_Cxx1LFBN.pdf; ComponentLink1Description: Datasheet
footprint 4PIN_.100IN
pins: 1 0, 2 1, 3 2, 4 3

## J_SOCKET_8PIN_.100IN
designator J?, comment SOCKET_8PIN_0.100IN  (value not drawn)
CONN HEADER FEM 8POS .1" SGL GLD; Manufacturer: Sullins Connector Solutions; Manufacturer PN: PPPC081LFBN; SVP Creator: Nate Bolyard; SVP Reviewer 1: Trevtron; Package: 0.100IN; Known Distributors: Digikey; HelpURL: http://umnsvp.dyndns.org/svn/centaurus2/datasheets/Common_breakout_board/PP_Cxx1LFBN.pdf; ComponentLink1URL: http://umnsvp.dyndns.org/svn/centaurus2/datasheets/Common_breakout_board/PP_Cxx1LFBN.pdf; ComponentLink1Description: Datasheet
pins: 1 0, 2 1, 3 2, 4 3, 5 4, 6 5, 7 6, 8 7

## J_SOCKET_20PIN
designator J?  (value not drawn)
Manuf. Part #: 1-535541-8; Digi-Key Part #: A26483-ND; Creator: Peter Thompson
pins: 1 0, 2 1, 3 2, 4 3, 5 4, 6 5, 7 6, 8 7, 9 8, 10 9, 11 10, 12 11, 13 12, 14 13, 15 14, 16 15, 17 16, 18 17, 19 18, 20 19

## J_Testpoint
designator J?
PC TEST POINT TIN SMD; Manufacturer PN: S1751-46R; ComponentLink1Description: Datasheet
footprint SMT Testpoint (Footprint not found)
pins: 1
text: TEST

## J_Thermistor_Connector
designator J?  (value not drawn)
Thermistor Connector
footprint SIP_HEADER_2 (Footprint not found)
pins: 1, 2

## J_USB_A_Receptacle_SAMTEC
designator J?, comment Manufacturer PN: USB-A-S-S-W-SM2  (hidden comment: Short Part Description)
USB A Receptacle; Manufacturer: SAMTEC; SVP Creator: Brett Paulsen; Package: USB A; Known Distributors: SAMTEC; ComponentLink1Description: Datasheet; ComponentLink1URL: SVN Datasheet URL; Price: Sampled!!!
footprint USB_A_Receptacle_SAMTEC_USB-A-S-X-X-SM2-X-XX
pins: 1 VDD (power), 2 D- (io), 3 D+ (io), 4 GND, 5 Shield

## J_UX60-MB-5S8
designator J?  (value not drawn)
CONN RECEPT MINI USB2.0 5POS; Manufacturer: Hirose; SVP Creator: Nate Bolyard; SVP Reviewer 1: Trevtron; Known Distributors: Digikey; Manufacturer PN: UX60-MB-5S8; Price: 0.85240; ComponentLink1Description: Datasheet; ComponentLink1URL: http://umnsvp.dyndns.org/svn/centaurus2/datasheets/Common Board/e24000019.pdf; HelpURL: http://umnsvp.dyndns.org/svn/centaurus2/datasheets/Common Board/e24000019.pdf
footprint UX60-MB-5S8
pins: 1 VBUS, 2 D-, 3 D+, 4 ID, 5 GND, 6 SHLD